# Altium schematic symbol library SOMA_15072021.SCHLIB: 76 symbols (part 1 of 2)
Pins are listed as number, name and electrical type; pins without a type are passive.

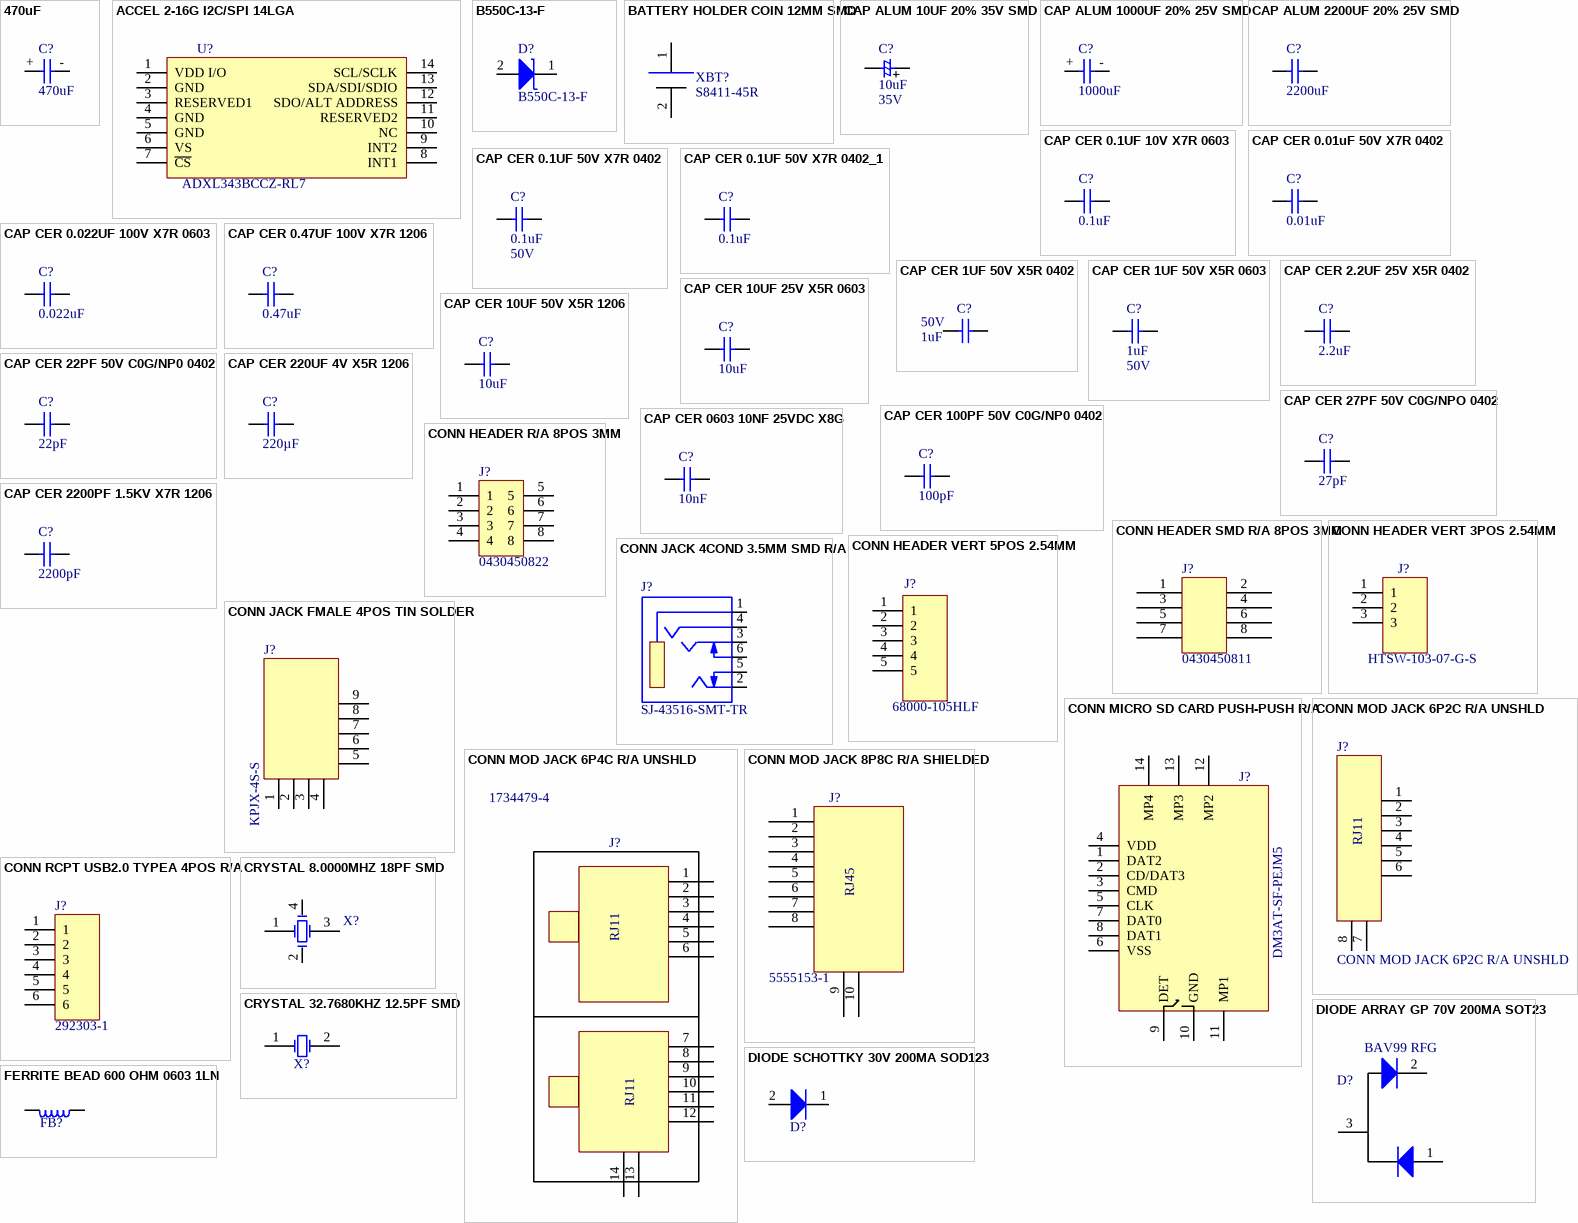
[diagram p0: symbols 470uF to FERRITE BEAD 600 OHM 0603 1LN]

## 470uF
designator C?, comment value 470uF  (hidden comment: CAP ALUM 470UF 20% 63V SMD)
Manufacturer: Panasonic Electronic Components; Manufacturer part Number: EEV-TG1J471M; Operating Temperature: -40°C ~ 125°C; Type: CAP; Package: Radial, Can - SMD; Reference link: https://www.digikey.com/en/products/detail/panasonic-electronic-components/EEV-TG1J471M/615967; Distributor: Digikey; Distributor part Number: PCE3667CT-ND; Unit Price: $2.49000; Tolerance: ±20%; Rating: 63V; Part Status: Active; Size / Dimension: 0.630" Dia (16.00mm)
footprint CAPAE1700X1650N (EEV-TG1J471M,CAP ALUM 470UF 20% 63V SMD)
pins: + 1, - 2
1 alternate drawing of the same symbol

## ACCEL 2-16G I2C/SPI 14LGA
designator U?  Manufacturer part Number: ADXL343BCCZ-RL7  (hidden comment: ACCEL 2-16G I2C/SPI 14LGA)
Accelerometer X, Y, Z Axis ±2g, 4g, 8g, 16g 0.05Hz ~ 1.6kHz 14-LGA (3x5); Manufacturer: Analog Devices Inc.; Tolerance: NA; Value: ADXL343BCCZ-RL7; Rating: 2V ~ 3.6V; Distributor: Digikey; Distributor part Number: ADXL343BCCZ-RL7CT-ND; Reference link: https://www.digikey.com/en/products/detail/analog-devices-inc/ADXL343BCCZ-RL7/3542894; Package: 14-VFLGA; Operating Temperature: -40°C ~ 85°C (TA); Type: Surface Mount; Unit Price: $3.10000
footprint LGA14R80P8X6_500X300X100N (ADXL343BCCZ-RL7,ACCEL 2-16G I2C/SPI 14LGA)
pins: 1 VDD I/O, 2 GND, 3 RESERVED1, 4 GND, 5 GND, 6 VS, 7 ~{CS}, 8 INT1, 9 INT2, 10 NC, 11 RESERVED2, 12 SDO/ALT ADDRESS, 13 SDA/SDI/SDIO, 14 SCL/SCLK

## B550C-13-F
designator D?, comment Manufacturer part Number: B550C-13-F  (hidden comment: DIODE SCHOTTKY 50V 5A SMC)
Manufacturer: Diodes Incorporated; Value: 50V/5A SCHOTTKY; Rating: 50V,5A; Operating Temperature: -55°C ~ 150°C; Package: DO-214AB, SMC; Distributor: Digi-key; Type: Diode; Reference link: https://www.digikey.com/en/products/detail/diodes-incorporated/B550C-13-F/768772?s=N4IgTCBcDaIEIFYEAYDCBaAjAZnQMQAIQBdAXyA; Distributor part Number: B550C-FDICT-ND; Unit Price: $0.58000; Part Status: Active
footprint SOD8060X250N_2A (B550C-13-F,DIODE SCHOTTKY 50V 5A SMC)
pins: 1 K, 2 A

## BATTERY HOLDER COIN 12MM SMD
designator XBT?  Manufacturer part Number: S8411-45R  (hidden comment: BATTERY HOLDER COIN 12MM SMD)
Manufacturer: Harwin Inc.; Distributor: Digikey; Distributor part Number: 952-1745-1-ND; Unit Price: $1.39000; Reference link: https://www.digikey.com/en/products/detail/harwin-inc/S8411-45R/3131055; Type: Coin Cell, Holder; Package: Cut Tape (CT; Part Status: Active; Operating Temperature: -55°C ~ 105°C
footprint HLDR_S8411-45R (S8411-45R,BATTERY HOLDER COIN 12MM SMD)
pins: 1 +, 2 -

## CAP ALUM 10UF 20% 35V SMD
designator C?, comment Rating: 35V  (hidden comment: 10uF)
CAP ALUM 10UF 20% 35V SMD; Manufacturer: Panasonic; Manufacturer part Number: EEE-1VA100WR; Operating Temperature: 40°C ~ 85°C; Package: 0.169" L x 0.169" W (4.30mm x 4.30mm); Reference link: https://www.digikey.com/product-detail/en/panasonic-electronic-components/EEE-1VA100WR/PCE3948TR-ND/761836; Distributor: Digi-Key; Distributor part Number: PCE3948TR-ND; Type: CAP; Tolerance: ±20%; Unit Price: $0.08326; Value: 10uF
footprint CAPAE430X540N (EEE-1VA100WR,CAP ALUM 10UF 20% 35V SMD)
pins: 1, 2
1 alternate drawing of the same symbol

## CAP ALUM 1000UF 20% 25V SMD
designator C?  value 1000uF  (hidden comment: CAP ALUM 1000UF 20% 25V SMD)
Manufacturer: United Chemi-Con; Manufacturer part Number: EMVA250ARA102MKE0S; Prt Status: Active; Operating Temperature: -55°C ~ 105°C; Type: CAP; Package: 512" L x 0.512" W (13.00mm x 13.00mm); Reference link: https://www.digikey.be/product-detail/en/united-chemi-con/EMVA250ARA102MKE0S/565-2110-2-ND/756757; Distributor: Digikey; Distributor part Number: 565-2110-2-ND; Unit Price: 1.25$; Tolerance: 20%; Rating: 1000UF 20% 25V
footprint CAPAE1300X1350N (EMVA250ARA102MKE0S,CAP ALUM 1000UF 20% 25V SMD)
pins: + 1, - 2
1 alternate drawing of the same symbol

## CAP ALUM 2200UF 20% 25V SMD
designator C?  value 2200uF  (hidden comment: CAP ALUM 2200UF 20% 25V SMD)
Manufacturer: Panasonic Electronic Components; Manufacturer part Number: EEE-FK1E222AM; Prt Status: Active; Operating Temperature: -55°C ~ 105°C; Type: CAP; Package: Radial, Can - SMD; Reference link: https://www.digikey.com/en/products/detail/panasonic-electronic-components/EEE-FK1E222AM/1879846; Distributor: Digikey; Distributor part Number: PCE4846CT-ND; Unit Price: $2.22000; Tolerance: ±20%; Rating: 25 V
footprint CAPAE1300X1350N (EMVA250ARA102MKE0S,CAP ALUM 1000UF 20% 25V SMD)
pins: 1, 2
1 alternate drawing of the same symbol

## CAP CER 0.1UF 10V X7R 0603
designator C?, comment 0.1uF
CAP CER 0.1UF 10V X7R 0603; Manufacturer: Würth Elektronik; Manufacturer part Number: 885012206020; Tolerance: ±10%; Operating Temperature: -55°C ~ 125°C; Reference link: https://www.digikey.com/en/products/detail/w%C3%BCrth-elektronik/885012206020/5453794; Package: 0603 (1608 Metric); Distributor: Digikey; Distributor part Number: 732-7939-1-ND; Type: CAP; Unit Price: $0.10000; Value: 0.1uF; Rating: 10V
footprint C0603
pins: 1, 2
1 alternate drawing of the same symbol

## CAP CER 0.01uF 50V X7R 0402
designator C?, comment 0.01uF
CAP CER 0.01uF 50V X7R 0402; Manufacturer: Yageo; Manufacturer part Number: CC0402KRX7R9BB103; Tolerance: ±10%; Operating Temperature: -55°C ~ 125°C; Package: 0402; Distributor: Digikey; Reference link: https://www.digikey.in/product-detail/en/yageo/CC0402KRX7R9BB103/311-1349-1-ND/2103133; Distributor part Number: 311-1349-1-ND; Type: CAP; Rating: 50V; Value: 0.01uF; Unit Price: 0.00609
footprint C0402
pins: 1, 2
1 alternate drawing of the same symbol

## CAP CER 0.1UF 50V X7R 0402
designator C?, comment Rating: 50V  (hidden comment: 0.1uF)
CAP CER 0.1UF 50V X7R 0402; Manufacturer: AVX; Manufacturer part Number: 04025C104KAT2A; Tolerance: ±10%; Operating Temperature: -55°C ~ 125°C; Value: 0.1uF; Package: 0402; Distributor: Mouser; Reference link: https://www.mouser.in/ProductDetail/AVX/04025C104KAT2A?qs=%2Fha2pyFaduhvAwOoQhW9hDDlPxePcbvdgYQJEdBTMGpxgpoTOSNvPA%3D%3D; Distributor part Number: 581-04025C104KAT2A; Type: CAP; Unit Price: ₹7.47
footprint C0402
pins: 1, 2
1 alternate drawing of the same symbol

## CAP CER 0.1UF 50V X7R 0402_1
designator C?, comment 0.1uF
CAP CER 0.1UF 50V X7R 0402; Manufacturer: AVX Corporation; Manufacturer part Number: 04025C104KAT2A; Tolerance: ±10%; Value: 0.1uF; Operating Temperature: -55°C ~ 125°C; Package: 0402; Distributor: Digikey; Reference link: https://www.digikey.in/product-detail/en/avx-corporation/04025C104KAT2A/478-10043-1-ND/6564266; Distributor part Number: 478-10043-1-ND; Type: CAP; Unit Price: 7.46000; Rating: 50V
footprint C0402
pins: 1, 2
1 alternate drawing of the same symbol

## CAP CER 0.022UF 100V X7R 0603
designator C?  value 0.022uF  (hidden comment: CAP CER 0.022UF 100V X7R 0603)
Manufacturer: TDK Corporation; Manufacturer part Number: C1608X7R2A223K080AA; Tolerance: ±10%; Operating Temperature: -55°C ~ 125°C; Type: CAP; Package: 0603 (1608 Metric); Reference link: https://www.digikey.com/en/products/detail/tdk-corporation/C1608X7R2A223K080AA/789669; Distributor: Digikey; Distributor part Number: 445-2275-2-ND; Rating: 100V; Part Status: Active; Unit Price: $0.10000
footprint C0603
pins: 1, 2
1 alternate drawing of the same symbol

## CAP CER 0.47UF 100V X7R 1206
designator C?  value 0.47uF  (hidden comment: CAP CER 0.47UF 100V X7R 1206)
Manufacturer: TDK Corporation; Manufacturer part Number: C3216X7R2A474K160AE; Tolerance: ±10%; Operating Temperature: -55°C ~ 125°C; Type: CAP; Package: 1206 (3216 Metric); Reference link: https://www.digikey.com/en/products/detail/tdk-corporation/C3216X7R2A474K160AE/3283646; Distributor: Digikey; Distributor part Number: 445-8902-1-ND; Unit Price: $0.73000; Rating: 100V; Part Status: Active
footprint C1206
pins: 1, 2
1 alternate drawing of the same symbol

## CAP CER 1UF 50V X5R 0402
designator C?  value 1uF  Rating: 50V  (hidden comment: CAP CER 1UF 50V X5R 0402)
1 µF ±10% 50V Ceramic Capacitor X5R 0402 (1005 Metric); Manufacturer: Taiyo Yuden; Manufacturer part Number: UMK105CBJ105KV-F; Tolerance: ±10%; Operating Temperature: -55°C ~ 85°C; Reference link: https://www.digikey.com/en/products/detail/taiyo-yuden/UMK105CBJ105KV-F/7403870; Package: 0402 (1005 Metric); Distributor: Digikey; Distributor part Number: 587-UMK105CBJ105KV-FCT-ND; Type: CAP; Unit Price: $0.32000
footprint C0402
pins: 1, 2
1 alternate drawing of the same symbol

## CAP CER 1UF 50V X5R 0603
designator C?  value 1uF  Rating: 50V  (hidden comment: CAP CER 1UF 50V X5R 0603)
Manufacturer: Taiyo Yuden; Manufacturer part Number: UMK107BJ105KA-T; Tolerance: ±10%; Operating Temperature: -55°C ~ 125°C; Reference link: https://www.digikey.in/product-detail/en/taiyo-yuden/UMK107BJ105KA-T/587-2400-2-ND/2178919; Package: 0603; Distributor: Digikey; Distributor part Number: 587-2400-2-ND; Type: CAP; Unit Price: 2.57370
footprint C0603
pins: 1, 2
1 alternate drawing of the same symbol

## CAP CER 2.2UF 25V X5R 0402
designator C?, comment 2.2uF
2.2 µF ±10% 25V Ceramic Capacitor X5R 0402 (1005 Metric); Manufacturer: TDK Corporation; Manufacturer part Number: C1005X5R1E225K050BE; Type: CAP; Value: 2.2uF; Tolerance: ±10%; Operating Temperature: -55°C ~ 85°C; Package: 0402 (1005 Metric); Distributor: Digikey; Reference link: https://www.digikey.com/en/products/detail/tdk-corporation/C1005X5R1E225K050BE/7907740; Distributor part Number: 445-175216-1-ND; Unit Price: $0.38000; Rating: 25V
footprint C0402
pins: 1, 2
1 alternate drawing of the same symbol

## CAP CER 10UF 25V X5R 0603
designator C?  value 10uF  (hidden comment: CAP CER 10UF 25V X5R 0603)
Manufacturer: Murata Electronics; Manufacturer part Number: ZRB18AR61E106ME01L; Tolerance: ±20%; Distributor: Digikey; Package: 0603 (1608 Metric); Type: CAP; Operating Temperature: -55°C ~ 85°C; Distributor part Number: 490-10991-1-ND; Reference link: https://www.digikey.com/en/products/detail/murata-electronics/ZRB18AR61E106ME01L/5321083; Unit Price: $0.50000; Rating: 25V
footprint C0603
pins: 1, 2

## CAP CER 10UF 50V X5R 1206
designator C?  value 10uF  (hidden comment: CAP CER 10UF 50V X5R 1206)
10µF ±20% 50V Ceramic Capacitor X5R 1206 (3216 Metric); Manufacturer: Samsung Electro-Mechanics; Manufacturer part Number: CL31A106MBHNNNE; Tolerance: ±20%; Operating Temperature: -55°C ~ 85°C; Type: CAP; Package: 1206 (3216 Metric); Reference link: https://www.digikey.in/product-detail/en/samsung-electro-mechanics/CL31A106MBHNNNE/1276-6736-2-ND/5961220; Distributor: Digikey; Distributor part Number: 1276-6736-2-ND; Unit Price: 5.29660; Rating: 50V; Part Status: Active
footprint C1206
pins: 1, 2
1 alternate drawing of the same symbol

## CAP CER 22PF 50V C0G/NP0 0402
designator C?, comment 22pF
CAP CER 22PF 50V C0G/NP0 0402; Manufacturer: AVX Corporation; Manufacturer part Number: 04025A220JAT2A; Tolerance: ±5%; Assembly Option: DNP; Operating Temperature: -55°C ~ 125°C; Reference link: https://www.digikey.com/product-detail/en/avx-corporation/04025A220JAT2A/478-1074-1-ND/564106; Package: 0402; Distributor: Digikey; Distributor part Number: 478-1074-1-ND; Type: CAP; Value: 22pF; Rating: 50V; Unit Price: $0.10000
footprint C0402
pins: 1, 2
1 alternate drawing of the same symbol

## CAP CER 27PF 50V C0G/NPO 0402
designator C?, comment 27PF
27pF ±5% 50V Ceramic Capacitor C0G, NP0 0402 (1005 Metric); Manufacturer: Yageo; Manufacturer part Number: CC0402JRNPO9BN270; Type: CAP; Assembly Option: DNP; Distributor: Digikey; Distributor part Number: 311-1019-1-ND; Package: 0402; Operating Temperature: -55°C ~ 125°C; Tolerance: ±5%; Reference link: https://www.digikey.in/product-detail/en/yageo/CC0402JRNPO9BN270/311-1019-1-ND/302936; Value: 27pF; Rating: 50V; Unit Price: 0.00651
footprint C0402
pins: 1, 2

## CAP CER 100PF 50V C0G/NP0 0402
designator C?  value 100pF  (hidden comment: CAP CER 100PF 50V C0G/NP0 0402)
100 pF ±5% 50V Ceramic Capacitor C0G, NP0 0402 (1005 Metric); Manufacturer: KEMET; Manufacturer part Number: C0402C101J5GACTU; Tolerance: ±5%; Operating Temperature: -55°C ~ 125°C; Package: 0402 (1005 Metric); Distributor: Digikey; Distributor part Number: 399-3194-1-ND; Reference link: https://www.digikey.com/en/products/detail/kemet/C0402C101J5GACTU/569895?s=N4IgTCBcDaIMIAYAsCxwIwPQKQKwHEBBOAFQFUQBdAXyA; Unit Price: $0.10000; Type: CAP; Rating: 50V
footprint C0402
pins: 1, 2
1 alternate drawing of the same symbol

## CAP CER 220UF 4V X5R 1206
designator C?  value 220µF  (hidden comment: CAP CER 220UF 4V X5R 1206)
220µF ±20% 4V Ceramic Capacitor X5R 1206 (3216 Metric); Manufacturer: Murata Electronics; Manufacturer part Number: GRM31CR60G227ME11L; Distributor: Digikey; Package: 1206 (3216 Metric); Type: CAP; Operating Temperature: -55°C ~ 85°C; Distributor part Number: 490-9774-2-ND; Reference link: https://www.digikey.in/product-detail/en/murata-electronics/GRM31CR60G227ME11L/490-9774-2-ND/4969458; Tolerance: ±20%; Unit Price: 34.53501; Rating: 4V
footprint C1206
pins: 1, 2

## CAP CER 0603 10NF 25VDC X8G
designator C?  value 10nF  (hidden comment: CAP CER 0603 10NF 25VDC X8G)
Manufacturer: KEMET; Manufacturer part Number: C0603C103K3TACAUTO; Tolerance: ±10%; Rating: 25V; Distributor: Digikey; Package: 0603 (1608 Metric); Type: CAP; Operating Temperature: -55°C ~ 150°C; Distributor part Number: C0603C103K3TACAUTO; Reference link: https://www.digikey.com/en/products/detail/kemet/C0603C103K3TACAUTO/13546784?s=N4IgjCBcpgLFoDGUBmBDANgZwKYBoQB7KAbXAFYBOAJlgHYQBdAgBwBcoQBlNgJwEsAdgHMQAXwJgAbAhDJI6bPiKkQAZhqwZzEO048BI8QSmVZ8xbgLFIZWAAZKsaU1YdI3PkNETwlABxm0HKomFYqtiD2rrrunoY%2BBNT2sEFIoUrWqmD2AASCAGIxeh4AqoL8bADyKACyOGhYAK68OMYgALTU5lB8Tco2ZORMvh1qPZB9A9nRjGK%2B3ZE5hSNAA; Unit Price: $0.45000
footprint C0603
pins: 1, 2

## CAP CER 2200PF 1.5KV X7R 1206
designator C?  value 2200pF  (hidden comment: CAP CER 2200PF 1.5KV X7R 1206)
Manufacturer: AVX Corporation; Manufacturer part Number: 1206SC222KAT2A; Tolerance: ±10%; Rating: 1500V; Operating Temperature: -55°C ~ 125°C; Type: CAP; Package: 1206 (3216 Metric); Reference link: https://www.digikey.com/en/products/detail/avx-corporation/1206SC222KAT2A/7536088; Distributor: Digikey; Distributor part Number: 478-10699-1-ND - Cut Tape (CT); Part Status: Active; Unit Price: $0.78000
pins: 1, 2
1 alternate drawing of the same symbol

## CONN HEADER R/A 8POS 3MM
designator J?  value 0430450822  (hidden comment: CONN HEADER R/A 8POS 3MM)
Connector Header Through Hole, Right Angle 8 position 0.118" (3.00mm); Manufacturer: Molex; Rating: 600V,8A; Tolerance: NA; Package: Tray; Operating Temperature: -40°C ~ 105°C; Unit Price: $3.18000; Distributor: Digikey; Distributor part Number: WM2681-ND; Manufacturer part Number: 0430450822; Reference link: https://www.digikey.com/en/products/detail/molex/0430450822/1635032?s=N4IgTCBcDaIAwBYDMiCscAcYIF0C%2BQA; Type: Header
footprint MOLEX_430450822 (0430450822,CONN HEADER R/A 8POS 3MM)
pins: 1, 2, 3, 4, 5, 6, 7, 8

## CONN HEADER SMD R/A 8POS 3MM
designator J?  value 0430450811  (hidden comment: CONN HEADER SMD R/A 8POS 3MM)
Connector Header Surface Mount, Right Angle 8 position 0.118" (3.00mm); Manufacturer: Molex; Rating: 600V 8A; Tolerance: NA; Unit Price: $5.40000; Distributor: Digikey; Distributor part Number: WM1834CT-ND; Manufacturer part Number: 0430450811; Package: Cut Tape (CT); Reference link: https://www.digikey.com/en/products/detail/molex/0430450811/4030798; Type: Header, Male Pin
footprint MOLEX_0430450811 (0430450811,CONN HEADER SMD R/A 8POS 3MM)
pins: 1, 2, 3, 4, 5, 6, 7, 8

## CONN HEADER VERT 3POS 2.54MM
designator J?  value HTSW-103-07-G-S  (hidden comment: CONN HEADER VERT 3POS 2.54MM)
Connector Header Through Hole 3 position 0.100" (2.54mm); Manufacturer: Samtec Inc.; Rating: UL94 V-0; Tolerance: NA; Unit Price: $0.55000; Distributor: Digikey; Distributor part Number: SAM8814-ND; Manufacturer part Number: HTSW-103-07-G-S; Package: Bag; Reference link: https://www.digikey.com/en/products/detail/samtec-inc/HTSW-103-07-G-S/2345285; Type: Header, Male Pin, Through hole
footprint BERG_1X3 (3 PIN CONNECTOR)
pins: 1, 2, 3

## CONN HEADER VERT 5POS 2.54MM
designator J?  value 68000-105HLF  (hidden comment: CONN HEADER VERT 5POS 2.54MM)
Manufacturer: Amphenol ICC (FCI); Rating: UL94 V-0; Tolerance: NA; Unit Price: $0.48000; Distributor: Digikey; Distributor part Number: 609-3462-ND; Manufacturer part Number: 68000-105HLF; Package: Bag; Reference link: https://www.digikey.com/en/products/detail/amphenol-icc-fci/68000-105HLF/2023304; Type: Header
footprint BERG_1X5 (5 PIN CONNECTOR)
pins: 1, 2, 3, 4, 5

## CONN JACK 4COND 3.5MM SMD R/A
designator J?  Manufacturer part Number: SJ-43516-SMT-TR  (hidden comment: CONN JACK 4COND 3.5MM SMD R/A)
3.50mm (0.141", 1/8", Mini Plug) - Headphone Phone Jack Stereo (4 Conductor, TRRS) Connector Solder; Manufacturer: CUI Devices; Rating: 12VDC; Tolerance: NA; Value: SJ-43516-SMT-TR; Operating Temperature: -20°C ~ 85°C; Unit Price: $1.10000; Distributor: Digikey; Distributor part Number: CP-43516SJCT-ND; Package: Cut Tape (CT); Reference link: https://www.digikey.com/en/products/detail/cui-devices/SJ-43516-SMT-TR/669721; Type: Phone Jack,Surface Mount, Right Angle
footprint CUI_SJ-43516-SMT-TR (CONN JACK 4COND 3.5MM SMD R/A,SJ-43516-SMT-TR)
pins: 1 SLEEVE, 2 TIP, 3 RING1, 4 RING2, 5 TIP_SWITCH, 6 RING_SWITCH

## CONN JACK FMALE 4POS TIN SOLDER
designator J?  value KPJX-4S-S  (hidden comment: CONN JACK FMALE 4POS TIN SOLDER)
4 (Power) Position Circular Connector Jack, Female Sockets Solder; Manufacturer: Kycon, Inc.; Rating: 7.5A, 48VDC, UL94 V-0; Manufacturer Part Number: KPJX-4S-S; Package: Tray; Part Status: Active; Connector Type: Jack, Female Sockets; Mounting Type: Through Hole, Right Angle; Operating Temperature: -40°C ~ 75°C; ComponentLink1Description: Datasheet; ComponentLink1URL: https://www.digikey.com/en/products/detail/kycon-inc/KPJX-4S-S/9990088; Distributor: Digikey; Distributor Part Number: 2092-KPJX-4S-S-ND; Type: Through Hole, Right Angle; Assembly Option: *; Unit Price: $2.41000; Tolerance: *; Reference Link: https://www.digikey.com/en/products/detail/kycon-inc/KPJX-4S-S/9990088?s=N4IgTCBcDaINIAUBSANAtAFgMpqyAugL5A
footprint KYCON_KPJX-4S -S (KPJX-4S -S,CONN JACK FMALE 4POS TIN SOLDER)
pins: 1, 2, 3, 4, 5, 6, 7, 8, 9

## CONN MICRO SD CARD PUSH-PUSH R/A
designator J?  value DM3AT-SF-PEJM5  (hidden comment: CONN MICRO SD CARD PUSH-PUSH R/A)
Manufacturer: Hirose Electric Co Ltd; Rating: NA; Unit Price: $2.50000; Distributor: Digikey; Distributor part Number: HR1964CT-ND; Manufacturer part Number: DM3AT-SF-PEJM5; Reference link: https://www.digikey.com/en/products/detail/hirose-electric-co-ltd/DM3AT-SF-PEJM5/2533565; Tolerance: NA; Type: Connector and Ejector
footprint HIROSE_DM3AT-SF-PEJM5
pins: 1 DAT2, 2 CD/DAT3, 3 CMD, 4 VDD, 5 CLK, 6 VSS, 7 DAT0, 8 DAT1, 9 DET, 10 GND, 11 MP1, 12 MP2, 13 MP3, 14 MP4

## CONN MOD JACK 6P2C R/A UNSHLD
designator J?
Jack Modular Connector 6p2c (RJ11) 90° Angle (Right) Unshielded Cat3; Manufacturer: TE Connectivity AMP Connectors; Manufacturer Part Number: 5520250-1; Category: Modular Connectors - Jacks; Part Status: Active; Connector Type: Jack; Number of Positions/Contacts: 6p2c (RJ11); Mounting Type: Through Hole; Operating Temperature: -40°C ~ 85°C; Packaging: Tray; Distributor: Digikey; Distributor Part Number: A31404-ND; Reference Link: https://www.digikey.in/product-detail/en/te-connectivity-amp-connectors/5520250-1/A31404-ND/769548; Ratings: Cat3; Unit Price: 111.90000
footprint TE_5520250-1 (5520250-1,CONN MOD JACK 6P2C R/A UNSHLD)
pins: 1, 2, 3, 4, 5, 6, 7, 8
text: RJ11

## CONN MOD JACK 6P4C R/A UNSHLD
designator J?  value 1734479-4  (hidden comment: CONN MOD JACK 6P4C R/A UNSHLD)
Jack Modular Connector 6p4c (RJ11, RJ14) 90° Angle (Right) Unshielded Cat3; Manufacturer: TE Connectivity AMP Connectors; Tolerance: NA; Unit Price: $2.69000; Distributor: Digikey; Distributor part Number: A119279-ND; Manufacturer part Number: 1734479-4; Package: Tray; Rating: Cat3; Reference link: https://www.digikey.com/en/products/detail/te-connectivity-amp-connectors/1734479-4/4897898?s=N4IgTCBcDaIIwHYDMAWFCCcBaFIC6AvkA; Type: Jack, Through Hole
footprint TE_17344794
pins: 1, 2, 3, 4, 5, 6, 7, 8, 9, 10, 11, 12, 13, 14
text: RJ11

## CONN MOD JACK 8P8C R/A SHIELDED
designator J?  value 5555153-1  (hidden comment: CONN MOD JACK 8P8C R/A SHIELDED)
Jack Modular Connector 8p8c (RJ45, Ethernet) 90° Angle (Right) Shielded Cat3; Manufacturer: TE Connectivity AMP Connectors; Tolerance: NA; Unit Price: $2.11000; Distributor: Digikey; Distributor part Number: A31438-ND; Manufacturer part Number: 5555153-1; Package: Tray; Rating: Cat3; Reference link: https://www.digikey.com/en/products/detail/te-connectivity-amp-connectors/5555153-1/769582?s=N4IgTCBcDaIKwLgRjgZgLRJAXQL5A; Type: Modular Connectors - Jacks, Through hole; Operating Temperature: -40°C ~ 85°C
footprint TE_55551531
pins: 1, 2, 3, 4, 5, 6, 7, 8, 9, 10
text: RJ45

## CONN RCPT USB2.0 TYPEA 4POS R/A
designator J?  value 292303-1  (hidden comment: CONN RCPT USB2.0 TYPEA 4POS R/A)
Manufacturer: TE Connectivity AMP Connectors; Rating: 30VAC, 1A per Contact; Tolerance: NA; Unit Price: $1.68000; Distributor: Digikey; Distributor part Number: A31726-ND; Manufacturer part Number: 292303-1; Reference link: https://www.digikey.com/en/products/detail/te-connectivity-amp-connectors/292303-1/773786; Type: USB-A (USB TYPE A)
footprint TE_292303-1 (292303-1,USB-A (USB TYPE-A) USB 2.0 Receptacle Connector 4 Position Through Hole, Right Angle)
pins: 1, 2, 3, 4, 5, 6

## CRYSTAL 8.0000MHZ 18PF SMD
designator X?, comment 8MHz  (value not drawn)
CRYSTAL 8.0000MHZ 18PF SMD; Manufacturer: Abracon LLC; Manufacturer part Number: ABMM2-8.000MHZ-D1-T; Rating: 72 Ohms; Assembly Option: DNP; Tolerance: ±20ppm; Distributor: Digikey; Package: HC-49/US; Operating Temperature: -40°C ~ 85°C; Type: Crystal; Distributor part Number: 535-13477-2-ND; Reference link: https://www.digikey.com/product-detail/en/abracon-llc/ABMM2-8.000MHZ-D1-T/535-13477-2-ND/5980073; Value: 8MHz
footprint XTAL600X360X120-4N (ABMM2-8.000MHZ-D1-T)
pins: 1 OSC1, 2, 3 OSC2, 4
2 alternate drawings of the same symbol

## CRYSTAL 32.7680KHZ 12.5PF SMD
designator X?, comment 32.7680KHZ  (value not drawn)
CRYSTAL 32.7680KHZ 12.5PF SMD; Manufacturer: NDK America, Inc.; Manufacturer part Number: NX3215SA-32.768K-STD-MUA-8; Rating: 70 kOhms; Value: 32.768 kHz; Tolerance: ±20ppm; Distributor: Digikey; Package: 2-SMD, No Lead; Operating Temperature: -40°C ~ 85°C; Type: kHz Crystal (Tuning Fork); Distributor part Number: 644-1156-1-ND; Reference link: https://www.digikey.com/en/products/detail/ndk-america-inc/NX3215SA-32-768K-STD-MUA-8/2261469; Unit Price: $0.79000
footprint XTAL320X150X90-2N (CRYSTAL 32.7680KHZ 12.5PF SMD,NX3215SA-32.768K-STD-MUA-8)
pins: 1 OSC1, 2 OSC2
2 alternate drawings of the same symbol

## DIODE ARRAY GP 70V 200MA SOT23
designator D?  value BAV99 RFG  (hidden comment: DIODE ARRAY GP 70V 200MA SOT23)
Diode Array 1 Pair Series Connection Standard 70V 200mA Surface Mount TO-236-3, SC-59, SOT-23-3; Manufacturer: Taiwan Semiconductor Corporation; Type: Diodes - Rectifiers - Arrays; Operating Temperature: -55°C ~ 150°C; Package: TO-236-3, SC-59, SOT-23-3; Distributor: Digi-key; Reference link: https://www.digikey.in/product-detail/en/taiwan-semiconductor-corporation/BAV99-RFG/BAV99RFGTR-ND/7374190; Distributor part Number: BAV99RFGTR-ND; Unit Price: 2.46926; Rating: 70V 200mA; Part Status: Active
footprint SOT95P240X130-3N (Footprint not found)
pins: 1 A, 2 K, 3 AK

## DIODE SCHOTTKY 30V 200MA SOD123
designator D?  (value not drawn)
Manufacturer: Diodes Incorporated; Manufacturer part Number: BAT43W-7-F; Value: 30 V 200mA (DC); Type: Schottky Diode; Rating: 1 V @ 200 mA; Tolerance: NA; Operating Temperature: -55°C ~ 125°C; Package: SOD-123; Reference link: https://www.digikey.com/en/products/detail/diodes-incorporated/BAT43W-7-F/749953; Distributor: Digikey; Distributor part Number: BAT43W-FDICT-ND; Unit Price: $0.50000
footprint SOD3715X140N_2A (BAT43W-7-F,DIODE SCHOTTKY 30V 200MA SOD123)
pins: 1 K, 2 A

## FERRITE BEAD 600 OHM 0603 1LN
designator FB?, comment 600 Ohms @ 100MHz  (value not drawn)
FERRITE BEAD 600 OHM 0603 1LN; Manufacturer: Murata; Manufacturer part Number: BLM18AG601SN1D; Type: FB; Assembly Option: DNP; Value: 600 Ohms @ 100MHz; Distributor: Digikey; Package: 0603; Operating Temperature: -55°C ~ 125°C; Rating: 600 Ohms @ 100MHz; Distributor part Number: 490-1014-2-ND; Reference link: https://www.digikey.com/product-detail/en/murata-electronics-north-america/BLM18AG601SN1D/490-1014-2-ND/584225; Unit Price: $0.02306
footprint CAPC1608X95N (C0603)
pins: 1, 2

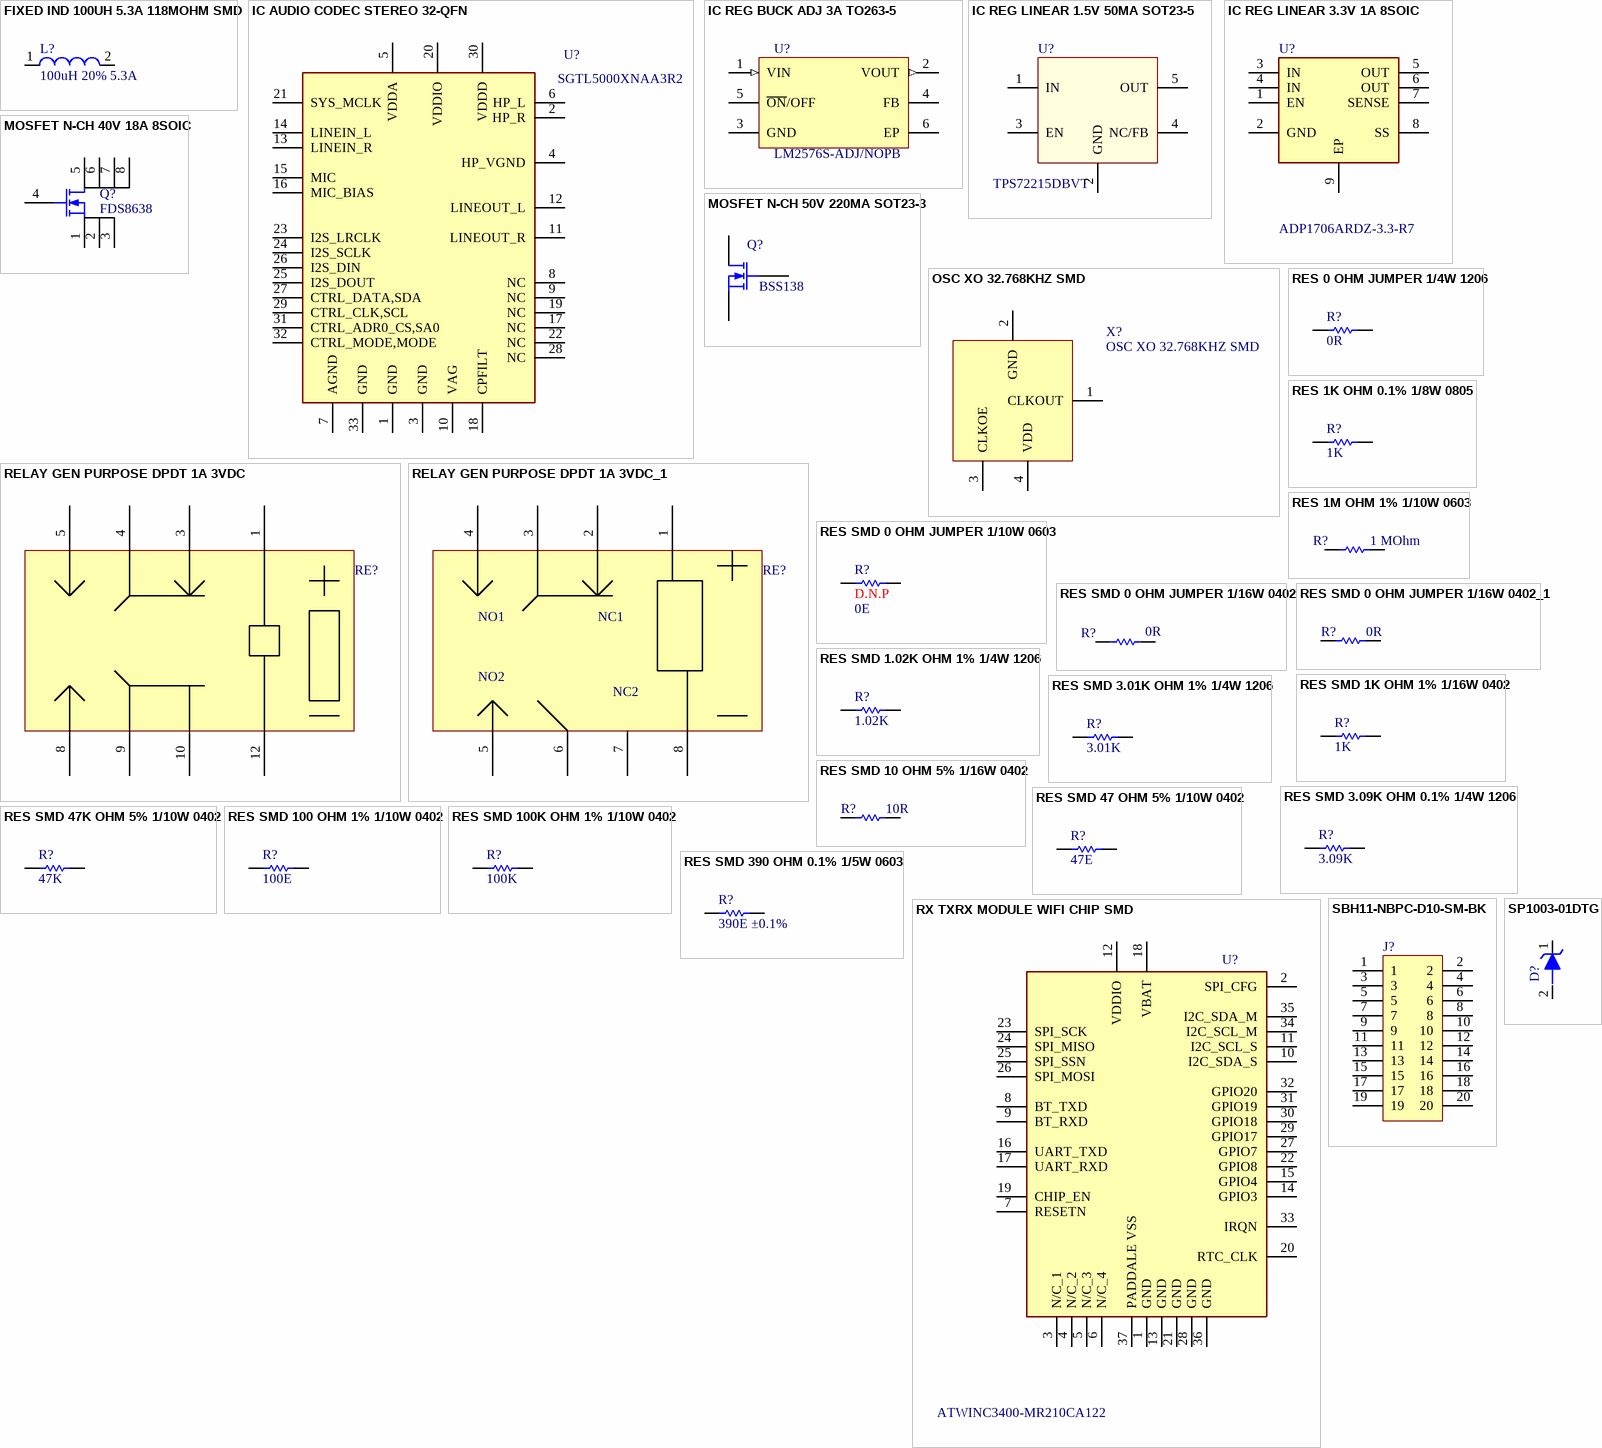
[diagram p1: symbols FIXED IND 100UH 5.3A 118MOHM SMD to SP1003-01DTG]

## FIXED IND 100UH 5.3A 118MOHM SMD
designator L?  value 100uH 20% 5.3A  (hidden comment: FIXED IND 100UH 5.3A 118MOHM SMD)
Manufacturer: Laird-Signal Integrity Products; Manufacturer part Number: MGV1707101M-10; Tolerance: ±20%; Distributor: Digikey; Distributor part Number: 240-3213-1-ND; Reference link: https://www.digikey.com/en/products/detail/laird-signal-integrity-products/MGV1707101M-10/9558761; Package: Nonstandard; Operating Temperature: -55°C ~ 125°C; Type: IND; Unit Price: $5.72000; Size / Dimension: 0.693" L x 0.665" W (17.60mm x 16.90mm); Part Status: Active
footprint IND_MGV1707101M-10 (MGV1707101M-10,FIXED IND 100UH 5.3A 118MOHM SMD)
footprint IND_MGV1707101M-10 (MGV1707101M-10,FIXED IND 100UH 5.3A 118MOHM SMD)
pins: 1, 2

## IC AUDIO CODEC STEREO 32-QFN
designator U?  value SGTL5000XNAA3R2  (hidden comment: IC AUDIO CODEC STEREO 32-QFN)
Stereo Audio Interface - I²C, Serial, SPI™ 32-QFN-EP (5x5); Manufacturer: NXP USA Inc.; Tolerance: NA; Rating: 1.1V ~ 2V, 1.62V ~ 3.6V; Manufacturer part Number: SGTL5000XNAA3R2; Operating Temperature: -40°C ~ 85°C; Distributor: Digikey; Distributor part Number: SGTL5000XNAA3R2CT-ND; Reference link: https://www.digikey.com/en/products/detail/nxp-usa-inc/SGTL5000XNAA3R2/2186898; Package: 32-VFQFN Exposed Pad; Type: IC; Unit Price: $4.19000
footprint QFN50P500X500X100-33N (SGTL5000XNAA3R2,IC AUDIO CODEC STEREO 32-QFN)
pins: 1 GND, 2 HP_R, 3 GND, 4 HP_VGND, 5 VDDA, 6 HP_L, 7 AGND, 8 NC, 9 NC, 10 VAG, 11 LINEOUT_R, 12 LINEOUT_L, 13 LINEIN_R, 14 LINEIN_L, 15 MIC, 16 MIC_BIAS, 17 NC, 18 CPFILT, 19 NC, 20 VDDIO, 21 SYS_MCLK, 22 NC, 23 I2S_LRCLK, 24 I2S_SCLK, 25 I2S_DOUT, 26 I2S_DIN, 27 CTRL_DATA,SDA, 28 NC, 29 CTRL_CLK,SCL, 30 VDDD, 31 CTRL_ADR0_CS,SA0, 32 CTRL_MODE,MODE, 33 GND

## IC REG BUCK ADJ 3A TO263-5
designator U?  value LM2576S-ADJ/NOPB  (hidden comment: IC REG BUCK ADJ 3A TO263-5)
Buck Switching Regulator IC Positive Adjustable 1.23V 1 Output 3A TO-263-6, D²Pak (5 Leads + Tab), TO-263BA; Manufacturer: Texas Instruments; Tolerance: NA; Manufacturer part Number: LM2576S-ADJ/NOPB; Distributor: Digikey; Distributor part Number: LM2576S-ADJ/NOPB-ND; Package: TO-263-6, D²Pak (5 Leads + Tab), TO-263BA; Rating: 1.23V 1 Output 3A; Type: IC; Operating Temperature: -40°C ~ 125°C (TJ); Unit Price: $4.79000; Reference link: https://www.digikey.com/en/products/detail/texas-instruments/LM2576S-ADJ-NOPB/363655
footprint TO-263-6_LM2576S (LM2576S-ADJ/NOPB,IC REG BUCK ADJ 3A TO263-5)
pins: 1 VIN (in), 2 VOUT (out), 3 GND, 4 FB, 5 ~{ON}/OFF, 6 EP

## IC REG LINEAR 1.5V 50MA SOT23-5
designator U?, comment TPS72215DBVT
IC REG LINEAR 1.5V 50MA SOT23-5; Manufacturer: Texas Instruments; Tolerance: NA; Rating: 0.1V@50mA; Distributor part Number: 296-12521-1-ND; Reference link: https://www.digikey.com/en/products/detail/texas-instruments/TPS72215DBVT/432081; Type: IC; Value: TPS72215DBVT; Manufacturer part Number: TPS72215DBVT; Distributor: Digikey; Package: SOT23-5; Operating Temperature: -40°C ~ 125°C; Unit Price: $1.53000
footprint SOT95P280X145-5N
pins: 1 IN (power), 2 GND (power), 3 EN (power), 4 NC/FB (power), 5 OUT (power)

## IC REG LINEAR 3.3V 1A 8SOIC
designator U?  Manufacturer part Number: ADP1706ARDZ-3.3-R7  (hidden comment: IC REG LINEAR 3.3V 1A 8SOIC)
Linear Voltage Regulator IC Positive Fixed 1 Output 1A 8-SOIC-EP; Manufacturer: Analog Devices Inc.; Tolerance: NA; Value: ADP1706ARDZ-3.3-R7; Rating: 3.3V 1A; Package: 8-SOIC (0.154", 3.90mm Width) Exposed Pad; Operating Temperature: -40°C ~ 125°C; Distributor: Digikey; Distributor part Number: ADP1706ARDZ-3.3-R7CT-ND; Reference link: https://www.digikey.com/en/products/detail/analog-devices-inc/ADP1706ARDZ-3-3-R7/1766873?s=N4IgTCBcDaIIIBEAKBGA7ABgGxwEoIC0BaAZgDoSjc0QBdAXyA; Type: IC; Unit Price: $3.15000
footprint SOIC127P600X170-9N (LMR16030SDDAR)
pins: 1 EN, 2 GND, 3 IN, 4 IN, 5 OUT, 6 OUT, 7 SENSE, 8 SS, 9 EP

## MOSFET N-CH 40V 18A 8SOIC
designator Q?  value FDS8638  (hidden comment: MOSFET N-CH 40V 18A 8SOIC)
N-Channel 40 V 18A (Ta) 2.5W (Ta) Surface Mount 8-SOIC; Manufacturer: ON Semiconductor; Rating: 40 V 18A 2.5W; Tolerance: NA; Type: Transistors - FETs, MOSFETs - Single, N-Channel; Unit Price: $2.12000; Distributor: Digikey; Distributor part Number: FDS8638CT-ND; Manufacturer part Number: FDS8638; Package: 8-SOIC (0.154", 3.90mm Width); Reference link: https://www.digikey.com/en/products/detail/on-semiconductor/FDS8638/2051638?s=N4IgTCBcDaIGIBEDKAOAbAZhSAugXyA
footprint SOIC127P600X175-8N
pins: 1, 2, 3, 4, 5, 6, 7, 8

## MOSFET N-CH 50V 220MA SOT23-3
designator Q?  value BSS138  (hidden comment: MOSFET N-CH 50V 220MA SOT23-3)
N-Channel 50V 220mA (Ta) 360mW (Ta) Surface Mount SOT-23-3; Manufacturer: ON Semiconductor; Tolerance: NA; Type: N-Channel MOSFET; Unit Price: 20.89000; Distributor: Digikey; Distributor part Number: BSS138CT-ND; Manufacturer part Number: BSS138; Package: TO-236-3, SC-59, SOT-23-3; Rating: 50V 220mA; Reference link: https://www.digikey.in/product-detail/en/on-semiconductor/BSS138/BSS138CT-ND/244294
footprint SOT95P240X110-3N (BSS138)
pins: 1 G, 2 S, 3 D

## OSC XO 32.768KHZ SMD
designator X?
32.768 kHz XO (Standard) CMOS Oscillator 1.2V ~ 5.5V Enable/Disable 4-SMD, No Lead; Manufacturer: Micro Crystal AG; Manufacturer part Number: OM-7604-C7-32.768KHZ-20PPM-TA-QC; Value: 1.2V ~ 5.5V,  0.5µA; Distributor: Digikey; Package: 4 SMD, No Lead; Operating Temperature: -40°C ~ 85°C; Type: Crystal; Distributor part Number: 2195-OM-7604-C7-32.768KHZ-20PPM-TA-QCCT-ND; Reference link: https://www.digikey.com/en/products/detail/micro-crystal-ag/OM-7604-C7-32-768KHZ-20PPM-TA-QC/10431069; Rating: 32.768kHz; Unit Price: $1.64000
footprint XTAL320X150X70-4N (OM-7604-C7-32.768KHZ-20PPM-TA-QC,OM-7604-C7-32.768KHZ-20PPM-TA-QC)
pins: 1 CLKOUT, 2 GND, 3 CLKOE, 4 VDD
2 alternate drawings of the same symbol

## RELAY GEN PURPOSE DPDT 1A 3VDC
designator RE?  (value not drawn)
General Purpose Relay DPDT (2 Form C) Surface Mount; Manufacturer: Panasonic Electric Works; Manufacturer Part Number: TXS2SA-3V; Rating: 3VDC 1A; Coil Resistance: 180 Ohms; Distributor: Digikey; Distributor Part Number: 255-2341-5-ND; Unit Price: $4.65000; Packaging: Tube; Operating Temperature: -40°C ~ 70°C; Type: Signal Relays, Up to 2 Amps; Reference Link: https://www.digikey.com/en/products/detail/panasonic-electric-works/TXS2SA-3V/650160
footprint RELAY_TXS2SA-3V
pins: 1, 3, 4, 5, 8, 9, 10, 12

## RELAY GEN PURPOSE DPDT 1A 3VDC_1
designator RE?, comment RELAY GEN PURPOSE DPDT 1A 3VDC  (value not drawn)
General Purpose Relay DPDT (2 Form C) Surface Mount; Manufacturer: Panasonic Electric Works; Manufacturer Part Number: TXS2SA-3V; Rating: 3VDC 1A; Coil Resistance: 180 Ohms; Distributor: Digikey; Distributor Part Number: 255-2341-5-ND; Unit Price: $4.65000; Packaging: Tube; Operating Temperature: -40°C ~ 70°C; Type: Signal Relays, Up to 2 Amps; Reference Link: https://www.digikey.com/en/products/detail/panasonic-electric-works/TXS2SA-3V/650160
footprint RELAY_TXS2SA-3V
pins: 1, 2, 3, 4, 5, 6, 7, 8
text: NO1; NC1; NO2; NC2

## RES 0 OHM JUMPER 1/4W 1206
designator R?  value 0R  (hidden comment: RES 0 OHM JUMPER 1/4W 1206)
Manufacturer: Yageo; Manufacturer part Number: RC1206JR-100RL; Distributor: Digikey; Distributor part Number: 13-RC1206JR-100RLTR-ND; Unit Price: 0.01063; Reference link: https://www.digikey.sg/product-detail/en/yageo/RC1206JR-100RL/13-RC1206JR-100RLTR-ND/13694179; Type: RES; Package: 1206 (3216 Metric); Tolerance: Jumper; Part Status: Active; Operating Temperature: -55°C ~ 155°C; Size / Dimension: 0.122" L x 0.063" W (3.10mm x 1.60mm)
footprint R1206
pins: 1, 2

## RES 1K OHM 0.1% 1/8W 0805
designator R?  value 1K  (hidden comment: RES 1K OHM 0.1% 1/8W 0805)
Manufacturer: Panasonic; Manufacturer part Number: ERA-6AEB102V; Tolerance: ±0.1%; Distributor: Digikey; Distributor part Number: P1.0KDACT-ND; Unit Price: $0.310000; Reference link: https://www.digikey.com/en/products/detail/panasonic-electronic-components/ERA-6AEB102V/1465748; Type: RES; Rating: 1/8W; Package: 0805 (2012 Metric); Part Status: Active; Operating Temperature: -55°C ~ 155°C; Size / Dimension: 0.039" L x 0.020" W (1.00mm x 0.50mm)
pins: 1, 2

## RES 1M OHM 1% 1/10W 0603
designator R?, comment 1 MOhm
RES 1M OHM 1% 1/10W 0603; Manufacturer part Number: RC0603FR-131ML; Manufacturer: Yageo; Operating Temperature: -55°C ~ 155°C; Distributor: Digikey; Package: 0603 (1608 Metric); Type: RES; Distributor part Number: 13-RC0603FR-131MLCT-ND; Reference link: https://www.digikey.com/en/products/detail/yageo/RC0603FR-131ML/13694152; Rating: 1/10W; Unit Price: $0.10000; Value: 1 MOhm
footprint R0603
pins: 1, 2

## RES SMD 0 OHM JUMPER 1/10W 0603
designator R?, comment Assembly Option: D.N.P  (hidden comment: 0E)
RES SMD 0 OHM JUMPER 1/10W 0603; Manufacturer part Number: RC0603JR-070RL; Manufacturer: Yageo; Operating Temperature: -55°C ~ 155°C; Distributor: Digikey; Package: 0603; Type: RES; Distributor part Number: 311-0.0GRCT-ND; Reference link: https://www.digikey.com/product-detail/en/yageo/RC0603JR-070RL/311-0.0GRCT-ND/729622; Rating: 1/10W; Unit Price: $0.10000; Value: 0E
footprint R0603
pins: 1, 2

## RES SMD 0 OHM JUMPER 1/16W 0402
designator R?  value 0R  (hidden comment: RES SMD 0 OHM JUMPER 1/16W 0402)
0 Ohms Jumper 0.063W, 1/16W Chip Resistor 0402 (1005 Metric) Moisture Resistant Thick Film; Manufacturer: Yageo; Manufacturer part Number: RC0402JR-070RP; Distributor: Digikey; Distributor part Number: YAG1279TR-ND; Unit Price: 0.00377; Reference link: https://www.digikey.sg/product-detail/en/yageo/RC0402JR-070RP/YAG1279TR-ND/4935294; Type: RES; Rating: 0.063W, 1/16W; Package: 0402 (1005 Metric); Tolerance: Jumper; Part Status: Active; Operating Temperature: -55°C ~ 155°C; Size / Dimension: 0.039" L x 0.020" W (1.00mm x 0.50mm)
footprint R0402
pins: 1, 2

## RES SMD 0 OHM JUMPER 1/16W 0402_1
designator R?, comment value 0R  (hidden comment: RES SMD 0 OHM JUMPER 1/16W 0402)
0 Ohms Jumper 0.063W, 1/16W Chip Resistor 0402 (1005 Metric) Moisture Resistant Thick Film; Manufacturer: Yageo; Manufacturer part Number: RC0402JR-070RP; Distributor: Digikey; Distributor part Number: YAG1279TR-ND; Unit Price: 0.00377; Reference link: https://www.digikey.sg/product-detail/en/yageo/RC0402JR-070RP/YAG1279TR-ND/4935294; Type: RES; Rating: 0.063W, 1/16W; Package: 0402 (1005 Metric); Tolerance: Jumper; Part Status: Active; Operating Temperature: -55°C ~ 155°C; Size / Dimension: 0.039" L x 0.020" W (1.00mm x 0.50mm)
footprint R0402
pins: 1, 2

## RES SMD 1.02K OHM 1% 1/4W 1206
designator R?  value 1.02K  (hidden comment: RES SMD 1.02K OHM 1% 1/4W 1206)
Manufacturer: Vishay Dale; Manufacturer part Number: CRCW12061K02FKEA; Distributor: Digikey; Distributor part Number: 541-1.02KFCT-ND; Unit Price: $0.10000; Reference link: https://www.digikey.com/en/products/detail/vishay-dale/CRCW12061K02FKEA/1176645; Type: RES; Rating: AEC-Q200; Package: 1206 (3216 Metric); Tolerance: ±1%; Part Status: Active; Operating Temperature: -55°C ~ 155°C
footprint R1206
pins: 1, 2

## RES SMD 1K OHM 1% 1/16W 0402
designator R?  value 1K  (hidden comment: RES SMD 1K OHM 1% 1/16W 0402)
Manufacturer: Yageo; Manufacturer part Number: AC0402FR-071KL; Rating: 0.063W, 1/16W; Tolerance: ±1%; Distributor: Digikey; Distributor part Number: 311-1KLBCT-ND; Unit Price: $0.10000; Reference link: https://www.digikey.com/en/products/detail/yageo/AC0402FR-071KL/2827801; Type: RES; Package: 0402 (1005 Metric); Part Status: Active; Operating Temperature: -55°C ~ 155°C; Size / Dimension: 0.039" L x 0.020" W (1.00mm x 0.50mm)
footprint R0402
pins: 1, 2

## RES SMD 3.01K OHM 1% 1/4W 1206
designator R?  value 3.01K  (hidden comment: RES SMD 3.01K OHM 1% 1/4W 1206)
Manufacturer: Yageo; Manufacturer part Number: RC1206FR-073K01L; Distributor: Digikey; Distributor part Number: 311-3.01KFRCT-ND; Unit Price: $0.10000; Reference link: https://www.digikey.com/en/products/detail/yageo/RC1206FR-073K01L/728754; Type: RES; Package: 1206 (3216 Metric); Tolerance: ±1%; Part Status: Active; Operating Temperature: -55°C ~ 155°C; Size / Dimension: 0.122" L x 0.063" W (3.10mm x 1.60mm)
footprint R1206
pins: 1, 2

## RES SMD 3.09K OHM 0.1% 1/4W 1206
designator R?  value 3.09K  (hidden comment: RES SMD 3.09K OHM 0.1% 1/4W 1206)
Manufacturer: Panasonic; Manufacturer part Number: ERA-8AEB3091V; Distributor: Digikey; Distributor part Number: P3.09KBCCT-ND; Unit Price: $0.57000; Reference link: https://www.digikey.com/en/products/detail/panasonic-electronic-components/ERA-8AEB3091V/3070954; Type: RES; Package: 1206 (3216 Metric); Tolerance: ±0.1%; Part Status: Active; Operating Temperature: -55°C ~ 155°C; Size / Dimension: 0.122" L x 0.063" W (3.10mm x 1.60mm)
footprint R1206
pins: 1, 2

## RES SMD 10 OHM 5% 1/16W 0402
designator R?  value 10R  (hidden comment: RES SMD 10 OHM 5% 1/16W 0402)
10 Ohms ±5% 0.063W, 1/16W Chip Resistor 0402 (1005 Metric) Automotive AEC-Q200 Thick Film; Manufacturer: Vishay Dale; Manufacturer part Number: CRCW040210R0JNED; Rating: AEC-Q200  0.063W, 1/16W; Tolerance: ±5%; Distributor: Digikey; Package: 0402 (1005 Metric); Operating Temperature: -55°C ~ 155°C; Type: RES; Distributor part Number: 541-10JCT-ND; Reference link: https://www.digikey.com/en/products/detail/vishay-dale/CRCW040210R0JNED/1177520; Unit Price: $0.10000
footprint R0402
pins: 1, 2

## RES SMD 47 OHM 5% 1/10W 0402
designator R?  value 47E  (hidden comment: RES SMD 47 OHM 5% 1/10W 0402)
Manufacturer: Panasonic; Manufacturer part Number: ERJ-2GEJ470X; Distributor: Digikey; Distributor part Number: P47JTR-ND; Reference link: https://www.digikey.com/product-detail/en/panasonic-electronic-components/ERJ-2GEJ470X/P47JTR-ND/147020; Package: 0402; Rating: 1/10W; Operating Temperature: -55°C ~ 155°C; Type: RES; Tolerance: ±5%; Unit Price: $0.00395
footprint R0402
pins: 1, 2

## RES SMD 47K OHM 5% 1/10W 0402
designator R?, comment 47K
RES SMD 47K OHM 5% 1/10W 0402; Manufacturer part Number: ERJ-2GEJ473X; Manufacturer: Panasonic Electronic Components; Assembly Option: DNP; Distributor: Digikey; Reference link: https://www.digikey.in/product-detail/en/panasonic-electronic-components/ERJ-2GEJ473X/P47KJCT-ND/147021; Type: RES; Distributor part Number: P47KJCT-ND; Rating: 1/10W; Tolerance: ±5%; Package: 0402; Operating Temperature: -55°C ~ 155°C; Value: 47K; Unit Price: 7.46000
footprint R0402
pins: 1, 2

## RES SMD 100 OHM 1% 1/10W 0402
designator R?, comment 100E
100 Ohms ±1% 0.1W, 1/10W Chip Resistor 0402 (1005 Metric) Automotive AEC-Q200 Thick Film; Manufacturer: Panasonic Electronic Components; Manufacturer part Number: ERJ-2RKF1000X; Operating Temperature: -55°C ~ 155°C; Distributor: Digikey; Package: 0402; Type: RES; Distributor part Number: P100LCT-ND; Rating: 1/10W; Reference link: https://www.digikey.in/product-detail/en/panasonic-electronic-components/ERJ-2RKF1000X/P100LCT-ND/194126; Tolerance: ±1%; Value: 100E; Unit Price: 7.46000
footprint R0402
pins: 1, 2

## RES SMD 100K OHM 1% 1/10W 0402
designator R?, comment 100K
100 kOhms ±1% 0.1W, 1/10W Chip Resistor 0402 (1005 Metric) Automotive AEC-Q200 Thick Film; Manufacturer: Panasonic Electronic Components; Manufacturer part Number: ERJ-2RKF1003X; Operating Temperature: -55°C ~ 155°C; Package: 0402; Distributor: Digikey; Type: RES; Reference link: https://www.digikey.in/product-detail/en/panasonic-electronic-components/ERJ-2RKF1003X/P100KLCT-ND/194127; Distributor part Number: P100KLCT-ND; Tolerance: ±1%; Rating: 1/10W; Value: 100K; Unit Price: 7.46000
footprint R0402
pins: 1, 2

## RES SMD 390 OHM 0.1% 1/5W 0603
designator R?  value 390E ±0.1%  (hidden comment: RES SMD 390 OHM 0.1% 1/5W 0603)
Manufacturer: Panasonic; Manufacturer part Number: ERJ-PB3B3900V; Rating: 0.2W; Assembly Option: DNP; Distributor: Digikey; Package: 0603; Operating Temperature: -55°C ~ 155°C; Type: RES; Distributor part Number: P19924TR-ND; Reference link: https://www.digikey.in/product-detail/en/panasonic-electronic-components/ERJ-PB3B3900V/P19924TR-ND/6212707; Tolerance: ±0.1%; Unit Price: 0.02610
footprint R0402
pins: 1, 2

## RX TXRX MODULE WIFI CHIP SMD
designator U?  value ATWINC3400-MR210CA122  (hidden comment: RX TXRX MODULE WIFI CHIP SMD)
Manufacturer: Microchip Technology; Tolerance: NA; Rating: 2.5V ~ 4.2V; Distributor part Number: ATWINC3400-MR210CA122-ND; Unit Price: $11.93000; Reference link: https://www.digikey.com/en/products/detail/microchip-technology/ATWINC3400-MR210CA122/7898445; Type: IC; Manufacturer part Number: ATWINC3400-MR210CA122; Distributor: Digikey; Package: Module; Operating Temperature: -40°C ~ 85°C
footprint MICROCHIP_ATWINC3400-MR210xA (ATWINC3400-MR210xA)
footprint MICROCHIP_ATWINC3400-MR210xA (ATWINC3400-MR210xA)
pins: 1 GND, 2 SPI_CFG, 3 N/C_1, 4 N/C_2, 5 N/C_3, 6 N/C_4, 7 RESETN, 8 BT_TXD, 9 BT_RXD, 10 I2C_SDA_S, 11 I2C_SCL_S, 12 VDDIO (power), 13 GND, 14 GPIO3, 15 GPIO4, 16 UART_TXD, 17 UART_RXD, 18 VBAT (power), 19 CHIP_EN, 20 RTC_CLK, 21 GND, 22 GPIO8, 23 SPI_SCK, 24 SPI_MISO, 25 SPI_SSN, 26 SPI_MOSI, 27 GPIO7, 28 GND, 29 GPIO17, 30 GPIO18, 31 GPIO19, 32 GPIO20, 33 IRQN, 34 I2C_SCL_M, 35 I2C_SDA_M, 36 GND, 37 PADDALE VSS

## SBH11-NBPC-D10-SM-BK
designator J?  (value not drawn)
Manufacturer: Sullins; Tolerance: NA; Unit Price: $1.68000; Distributor: Digikey; Distributor part Number: S9188-ND; Manufacturer part Number: SBH11-NBPC-D10-SM-BK; Reference link: https://www.digikey.at/product-detail/en/sullins-connector-solutions/SBH11-NBPC-D10-SM-BK/S9188-ND/1990081; Type: JTAG
pins: 1, 2, 3, 4, 5, 6, 7, 8, 9, 10, 11, 12, 13, 14, 15, 16, 17, 18, 19, 20

## SP1003-01DTG
designator D?, comment TVS DIODE 5VWM 12VC SOD723  (value not drawn)
Manufacturer Part Number: SP1003-01DTG; Manufacturer: Littelfuse Inc.; Value: 12V (Typ) Clamp 7A (8/20µs; Tolerance: NA; Type: IC; Operating Temperature: -40°C ~ 125°C (TJ); Distributor: Mouser; Distributor part Number: 576-SP1003-01DTG; Package: SOD-723-2; Reference link: https://www.mouser.in/ProductDetail/Littelfuse/SP1003-01DTG?qs=Xb8IjHhkxj76JbYOs4IgRA%3D%3D
pins: 1 K, 2 A

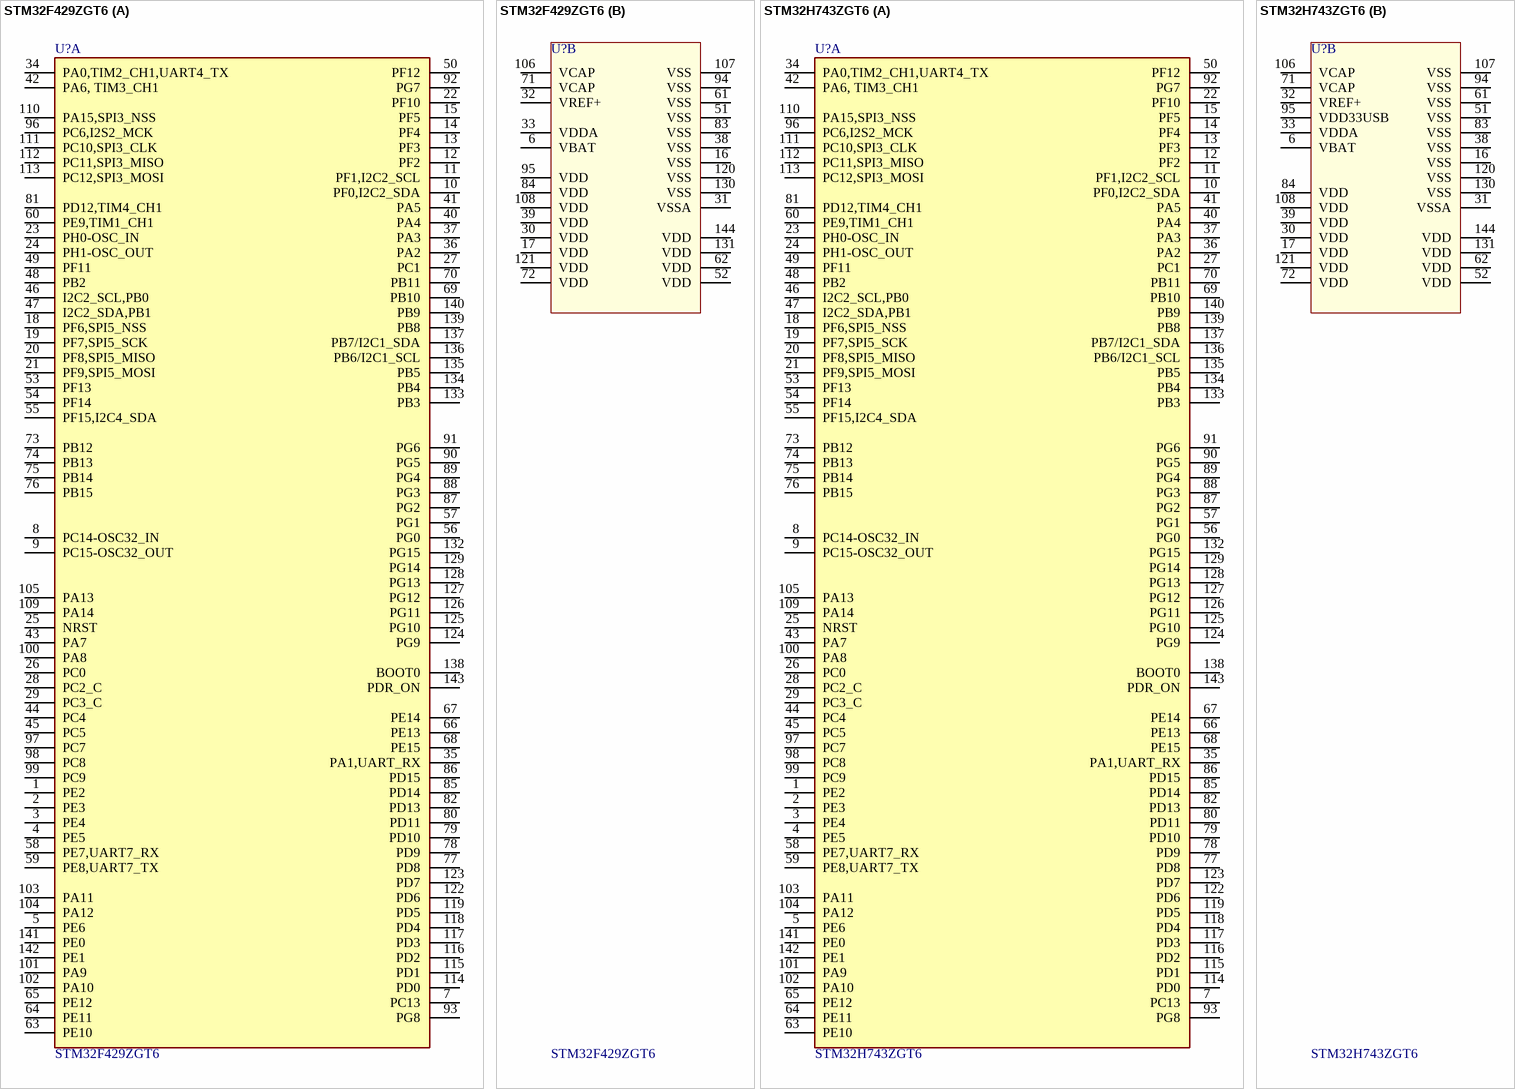
[diagram p2: symbols STM32F429ZGT6 to STM32H743ZGT6]

## STM32F429ZGT6
designator U?
ARM® Cortex®-M4 series Microcontroller IC 32-Bit Single-Core 180MHz 1MB (1M x 8) FLASH 144-LQFP (20x20); Manufacturer: STMicroelectronics; Categories: Embedded - Microcontrollers; Rating: 1.8V ~ 3.6V; Manufacturer Part Number: STM32F429ZGT6; Part Status: Active; Operating Temperature: *-40°C ~ 85°C (TA); Mounting Type: Surface Mount; Package / Case: 144-LQFP; Distributor: Digikey; Distributor Part Number: 497-17461-ND; Reference Link: https://www.digikey.com/en/products/detail/stmicroelectronics/STM32F429ZGT6/4357426; Unit Price: 21.55
footprint QFP50P2200X2200X160-144N
part A pins: 1 PE2, 2 PE3, 3 PE4, 4 PE5, 5 PE6, 7 PC13, 8 PC14-OSC32_IN, 9 PC15-OSC32_OUT, 10 PF0,I2C2_SDA, 11 PF1,I2C2_SCL, 12 PF2, 13 PF3, 14 PF4, 15 PF5, 18 PF6,SPI5_NSS, 19 PF7,SPI5_SCK, 20 PF8,SPI5_MISO, 21 PF9,SPI5_MOSI, 22 PF10, 23 PH0-OSC_IN, 24 PH1-OSC_OUT, 25 NRST, 26 PC0, 27 PC1, 28 PC2_C, 29 PC3_C, 34 PA0,TIM2_CH1,UART4_TX, 35 PA1,UART_RX, 36 PA2, 37 PA3, 40 PA4, 41 PA5, 42 PA6, TIM3_CH1, 43 PA7, 44 PC4, 45 PC5, 46 I2C2_SCL,PB0, 47 I2C2_SDA,PB1, 48 PB2, 49 PF11, 50 PF12, 53 PF13, 54 PF14, 55 PF15,I2C4_SDA, 56 PG0, 57 PG1, 58 PE7,UART7_RX, 59 PE8,UART7_TX, 60 PE9,TIM1_CH1, 63 PE10, 64 PE11, 65 PE12, 66 PE13, 67 PE14, 68 PE15, 69 PB10, 70 PB11, 73 PB12, 74 PB13, 75 PB14, 76 PB15, 77 PD8, 78 PD9, 79 PD10, 80 PD11, 81 PD12,TIM4_CH1, 82 PD13, 85 PD14, 86 PD15, 87 PG2, 88 PG3, 89 PG4, 90 PG5, 91 PG6, 92 PG7, 93 PG8, 96 PC6,I2S2_MCK, 97 PC7, 98 PC8, 99 PC9, 100 PA8, 101 PA9, 102 PA10, 103 PA11, 104 PA12, 105 PA13, 109 PA14, 110 PA15,SPI3_NSS, 111 PC10,SPI3_CLK, 112 PC11,SPI3_MISO, 113 PC12,SPI3_MOSI, 114 PD0, 115 PD1, 116 PD2, 117 PD3, 118 PD4, 119 PD5, 122 PD6, 123 PD7, 124 PG9, 125 PG10, 126 PG11, 127 PG12, 128 PG13, 129 PG14, 132 PG15, 133 PB3, 134 PB4, 135 PB5, 136 PB6/I2C1_SCL, 137 PB7/I2C1_SDA, 138 BOOT0, 139 PB8, 140 PB9, 141 PE0, 142 PE1, 143 PDR_ON
part B pins: 6 VBAT (power), 16 VSS (power), 17 VDD (power), 30 VDD (power), 31 VSSA (power), 32 VREF+ (power), 33 VDDA (power), 38 VSS (power), 39 VDD (power), 51 VSS (power), 52 VDD (power), 61 VSS (power), 62 VDD (power), 71 VCAP (power), 72 VDD (power), 83 VSS (power), 84 VDD (power), 94 VSS (power), 95 VDD (power), 106 VCAP (power), 107 VSS (power), 108 VDD (power), 120 VSS (power), 121 VDD (power), 130 VSS (power), 131 VDD (power), 144 VDD (power)

## STM32H743ZGT6
designator U?
ARM® Cortex®-M7 STM32H7 Microcontroller IC 32-Bit 480MHz 1MB (1M x 8) FLASH 144-LQFP (20x20); Manufacturer: STMicroelectronics; Categories: Embedded - Microcontrollers; Rating: 1.62V ~ 3.6V; Manufacturer Part Number: STM32H743ZGT6; Part Status: Active; Operating Temperature: *-40°C ~ 85°C (TA); Mounting Type: Surface Mount; Package / Case: 144-LQFP; Distributor: Digikey; Distributor Part Number: 497-STM32H743ZGT6-ND; Reference Link: https://www.digikey.in/products/en?keywords=STM32H743ZGT6; Unit Price: 1,230.90000
footprint QFP50P2200X2200X160-144N
part A pins: 1 PE2, 2 PE3, 3 PE4, 4 PE5, 5 PE6, 7 PC13, 8 PC14-OSC32_IN, 9 PC15-OSC32_OUT, 10 PF0,I2C2_SDA, 11 PF1,I2C2_SCL, 12 PF2, 13 PF3, 14 PF4, 15 PF5, 18 PF6,SPI5_NSS, 19 PF7,SPI5_SCK, 20 PF8,SPI5_MISO, 21 PF9,SPI5_MOSI, 22 PF10, 23 PH0-OSC_IN, 24 PH1-OSC_OUT, 25 NRST, 26 PC0, 27 PC1, 28 PC2_C, 29 PC3_C, 34 PA0,TIM2_CH1,UART4_TX, 35 PA1,UART_RX, 36 PA2, 37 PA3, 40 PA4, 41 PA5, 42 PA6, TIM3_CH1, 43 PA7, 44 PC4, 45 PC5, 46 I2C2_SCL,PB0, 47 I2C2_SDA,PB1, 48 PB2, 49 PF11, 50 PF12, 53 PF13, 54 PF14, 55 PF15,I2C4_SDA, 56 PG0, 57 PG1, 58 PE7,UART7_RX, 59 PE8,UART7_TX, 60 PE9,TIM1_CH1, 63 PE10, 64 PE11, 65 PE12, 66 PE13, 67 PE14, 68 PE15, 69 PB10, 70 PB11, 73 PB12, 74 PB13, 75 PB14, 76 PB15, 77 PD8, 78 PD9, 79 PD10, 80 PD11, 81 PD12,TIM4_CH1, 82 PD13, 85 PD14, 86 PD15, 87 PG2, 88 PG3, 89 PG4, 90 PG5, 91 PG6, 92 PG7, 93 PG8, 96 PC6,I2S2_MCK, 97 PC7, 98 PC8, 99 PC9, 100 PA8, 101 PA9, 102 PA10, 103 PA11, 104 PA12, 105 PA13, 109 PA14, 110 PA15,SPI3_NSS, 111 PC10,SPI3_CLK, 112 PC11,SPI3_MISO, 113 PC12,SPI3_MOSI, 114 PD0, 115 PD1, 116 PD2, 117 PD3, 118 PD4, 119 PD5, 122 PD6, 123 PD7, 124 PG9, 125 PG10, 126 PG11, 127 PG12, 128 PG13, 129 PG14, 132 PG15, 133 PB3, 134 PB4, 135 PB5, 136 PB6/I2C1_SCL, 137 PB7/I2C1_SDA, 138 BOOT0, 139 PB8, 140 PB9, 141 PE0, 142 PE1, 143 PDR_ON
part B pins: 6 VBAT (power), 16 VSS (power), 17 VDD (power), 30 VDD (power), 31 VSSA (power), 32 VREF+ (power), 33 VDDA (power), 38 VSS (power), 39 VDD (power), 51 VSS (power), 52 VDD (power), 61 VSS (power), 62 VDD (power), 71 VCAP (power), 72 VDD (power), 83 VSS (power), 84 VDD (power), 94 VSS (power), 95 VDD33USB (power), 106 VCAP (power), 107 VSS (power), 108 VDD (power), 120 VSS (power), 121 VDD (power), 130 VSS (power), 131 VDD (power), 144 VDD (power)

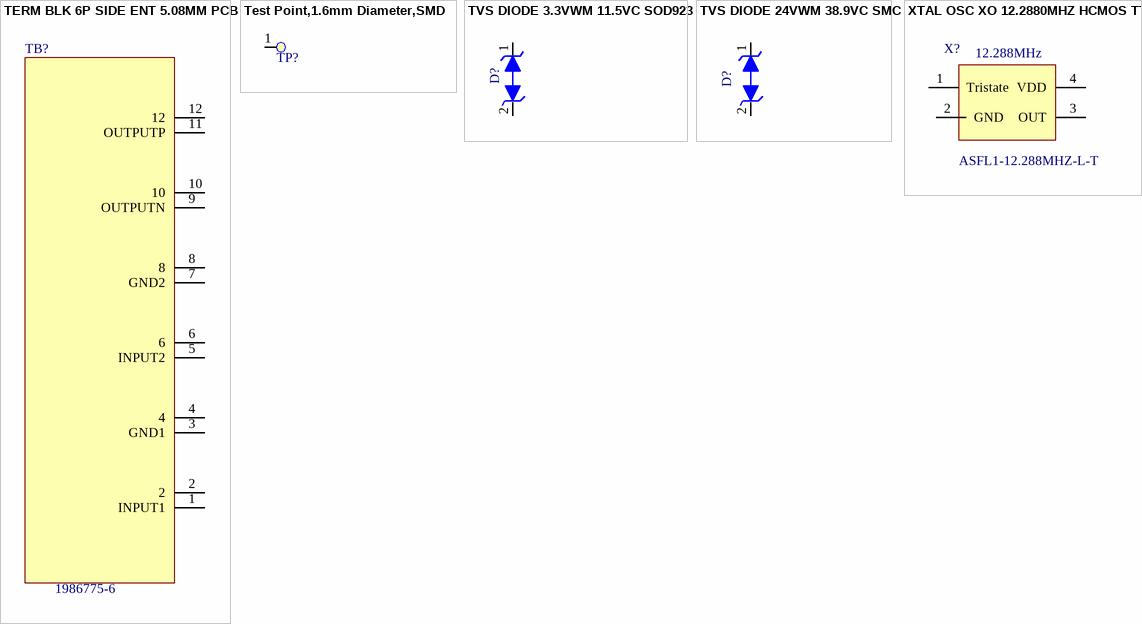
[diagram p3: symbols TERM BLK 6P SIDE ENT 5.08MM PCB to XTAL OSC XO 12.2880MHZ HCMOS TTL]

## TERM BLK 6P SIDE ENT 5.08MM PCB
designator TB?  Manufacturer Part Number: 1986775-6  (hidden comment: TERM BLK 6P SIDE ENT 5.08MM PCB)
6 Position Wire to Board Terminal Block Horizontal with Board 0.200" (5.08mm) Through Hole; Manufacturer: TE Connectivity AMP Connectors; Wire Gauge: 12 AWG; Rating: 300V  15A; Category: Terminal Blocks - Wire to Board; Package: Tray; Part Status: Active; Mounting Type: Through Hole; Operating Temperature: -40°C ~ 110°C; Distributor: Digikey; Distributor Part Number: A120496-ND; Unit Price: 349.87000
footprint TE_1986775-6
pins: 1 INPUT1, 2, 3 GND1, 4, 5 INPUT2, 6, 7 GND2, 8, 9 OUTPUTN, 10, 11 OUTPUTP, 12

## Test Point,1.6mm Diameter,SMD
designator TP?  (value not drawn)  (no BOM)
AEMCI Part Number: *; Vendor: *; Vendor ID: *
footprint TP_63C
pins: 1 0

## TVS DIODE 3.3VWM 11.5VC SOD923
designator D?  (value not drawn)
11.5V Clamp 2A (8/20µs) Ipp Tvs Diode Surface Mount SOD-923; Manufacturer Part Number: ESD9B3.3ST5G; Manufacturer: ON Semiconductor; Value: 3.3V 11.5V; Assembly Option: DNP; Tolerance: NA; Operating Temperature: -55°C to +150°C; Distributor: Digikey; Distributor part Number: ESD9B3.3ST5GOSTR-ND; Package: SOD-923; Rating: 3.3V 11.5V; Reference link: https://www.digikey.com/product-detail/en/on-semiconductor/ESD9B3.3ST5G/ESD9B3.3ST5GOSTR-ND/1973669; Type: TVS; Unit Price: $0.24000
footprint SOD1006X40N_BI (ESD9B3.3ST5G,ESD9B3.3ST5G)
pins: 1 K, 2 A

## TVS DIODE 24VWM 38.9VC SMC
designator D?  (value not drawn)
38.9V Clamp 77.2A Ipp Tvs Diode Surface Mount DO-214AB (SMC); Manufacturer: Bourns Inc.; Manufacturer part Number: SMLJ24CA-Q; Rating: 3000W (3kW); Tolerance: NA; Operating Temperature: -55°C ~ 150°C (TJ); Value: 38.9V Clamp 77.2A; Package: DO-214AB, SMC; Distributor: Digikey; Type: TVS; Reference link: https://www.digikey.com/en/products/detail/bourns-inc/SMLJ24CA-Q/8275811; Distributor part Number: SMLJ24CA-QCT-ND; Unit Price: $1.45000
footprint SOD8060X260N_BI (SMLJ24CA-Q,TVS DIODE 24VWM 38.9VC SMC)
pins: 1 K, 2 A